# EAGLE library part SN74LVC1G3157 (library sc_usercreated)
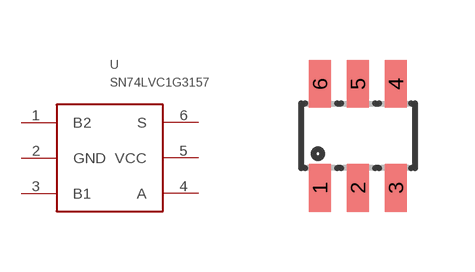
[diagram p13: symbol with the pads of SOT-23-6; footprint SOT-23-6]

Designator prefix U

## SN74LVC1G3157  [SOT-23-6]
1  B2
2  GND
3  B1
4  A
5  VCC
6  S

## Footprint SOT-23-6 (pad centres in mm)
smd 0.55 x 1.2: 1 -0.45,-1.3; 2 0.5,-1.3; 3 1.45,-1.3; 4 1.45,1.3; 5 0.5,1.3; 6 -0.45,1.3